# EAGLE library part LTC1068-25 (library ARVP_Linear_Technology)
Created for ARVP by Xiaochuan Chen Feb.15, 2013
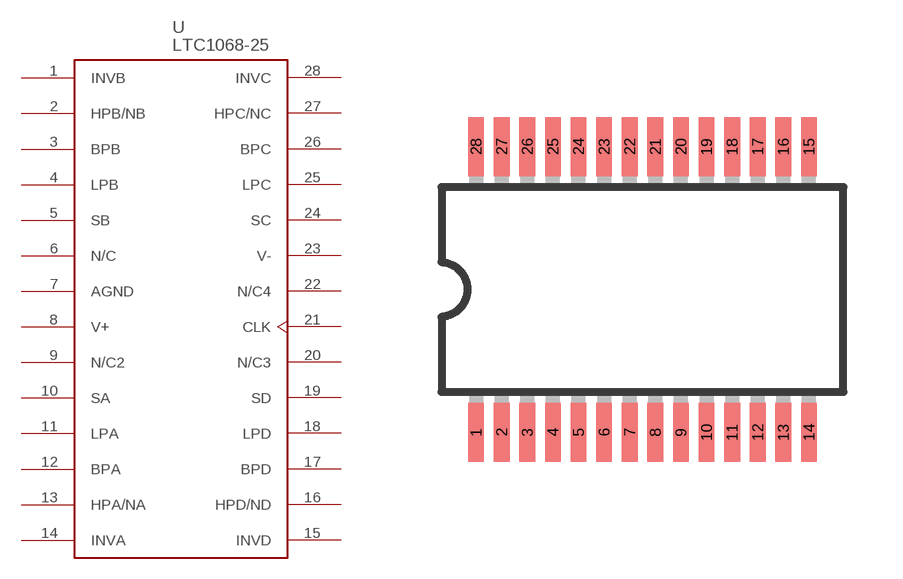
[diagram p0: symbol with the pads of SSOP28; footprint SSOP28]

Designator prefix -

## LTC1068-25  [SSOP28]
1  INVB  in
2  HPB/NB  in
3  BPB  in
4  LPB  in
5  SB  in
6  N/C  nc
7  AGND  sup
8  V+  pwr
9  N/C2  nc
10  SA  in
11  LPA  in
12  BPA  in
13  HPA/NA  in
14  INVA  in
15  INVD  in
16  HPD/ND  in
17  BPD  in
18  LPD  in
19  SD  in
20  N/C3  nc
21  CLK  in
22  N/C4  nc
23  V-  pwr
24  SC  in
25  LPC  in
26  BPC  in
27  HPC/NC  in
28  INVC  in

## Footprint SSOP28 (pad centres in mm)
28-Lead Shrink Small Outline Package SSOP (RS-28)
smd 0.4 x 1.5: 1 -4.225,-3.625; 2 -3.575,-3.625; 3 -2.925,-3.625; 4 -2.275,-3.625; 5 -1.625,-3.625; 6 -0.975,-3.625; 7 -0.325,-3.625; 8 0.325,-3.625; 9 0.975,-3.625; 10 1.625,-3.625; 11 2.275,-3.625; 12 2.925,-3.625; 13 3.575,-3.625; 14 4.225,-3.625; 15 4.225,3.625; 16 3.575,3.625; 17 2.925,3.625; 18 2.275,3.625; 19 1.625,3.625; 20 0.975,3.625; 21 0.325,3.625; 22 -0.325,3.625; 23 -0.975,3.625; 24 -1.625,3.625; 25 -2.275,3.625; 26 -2.925,3.625; 27 -3.575,3.625; 28 -4.225,3.625